# Altium footprint library CONMMCX001-SMD.PCBLIB: 1 footprints
Each footprint in its own frame and in the unit in brackets; x right, y up, seen from the top. Pads: shape width x height; smd on the part's side, far side on the other; paste and mask are expansions set on the pad; w line width, h text height; cw(c..) or ccw(c..) is an arc to the next point about the centre after c.
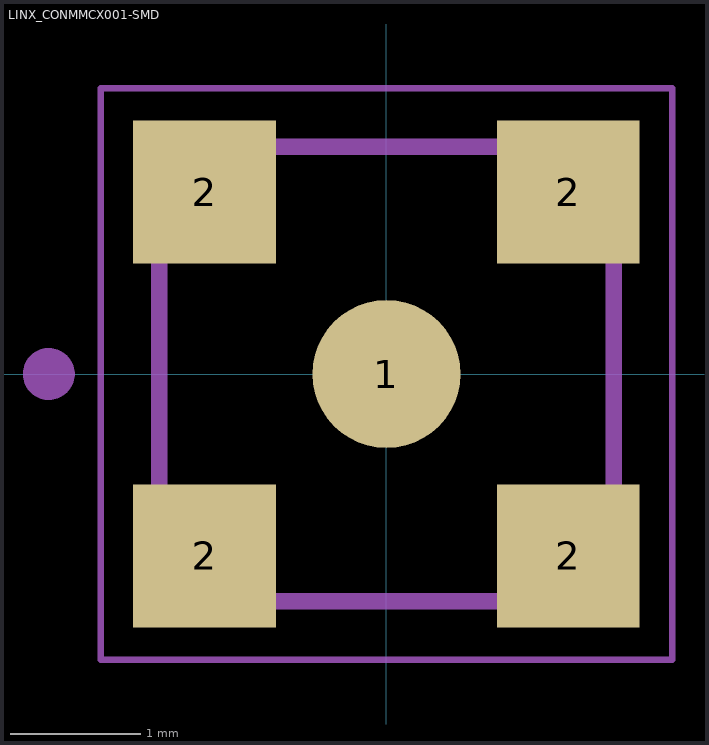
[diagram p0: the footprint, top view; thin cyan lines are the x and y axes]

## LINX_CONMMCX001-SMD [mm]
pads (5):
  rrect100% 1.14x1.14 smd: 1(0,0)
  rect 1.1x1.1 smd: 2(-1.4,-1.4) 2(-1.4,1.4) 2(1.4,-1.4) 2(1.4,1.4)
Assembly Top:
  circle w0.2: c-2.6,0 r0.1
  lines w0.127: -1.75,-1.75 -1.75,1.75 1.75,1.75 1.75,-1.75 -1.75,-1.75
Mechanical 22:
  circle w0.2: c-2.6,0 r0.1
  lines w0.127: -1.75,-0.53 -1.75,0.53 ; -0.53,-1.75 0.53,-1.75 ; -0.53,1.75 0.53,1.75 ; 1.75,-0.53 1.75,0.53
Mechanical 30:
  lines w0.05: -2.2,-2.2 -2.2,2.2 2.2,2.2 2.2,-2.2 -2.2,-2.2